# Altium footprint library SUPERSEAL 26POS 90Deg.PcbLib: 1 footprints
Each footprint in its own frame and in the unit in brackets; x right, y up, seen from the top. Pads: shape width x height; smd on the part's side, far side on the other; paste and mask are expansions set on the pad; w line width, h text height; cw(c..) or ccw(c..) is an arc to the next point about the centre after c.
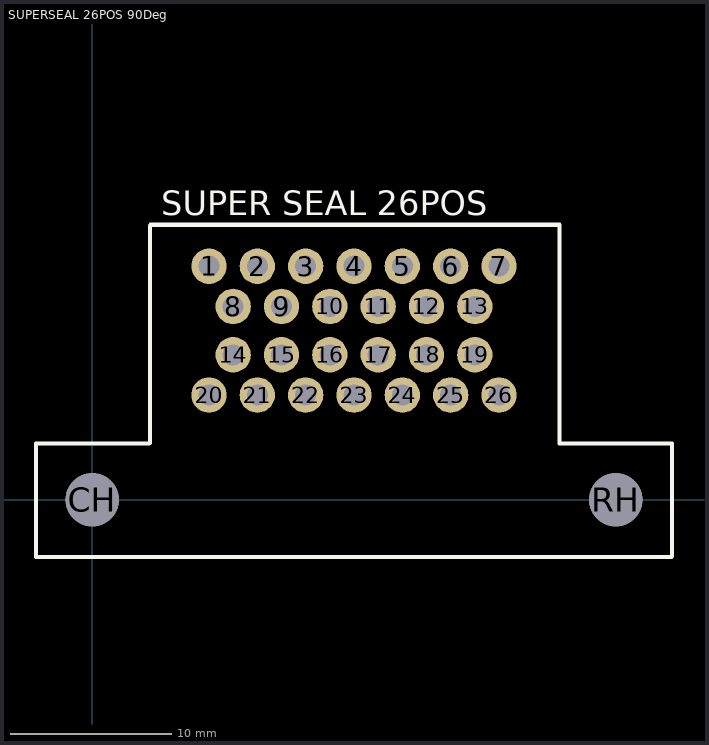
[diagram p0: the footprint, top view; thin cyan lines are the x and y axes]

## SUPERSEAL 26POS 90Deg [mm]
pads (28):
  round 2.2 hole 1.3: 1(7.25,14.5) 2(10.25,14.5) 3(13.25,14.5) 4(16.25,14.5) 5(19.25,14.5) 6(22.25,14.5) 7(25.25,14.5) 8(8.75,12) 9(11.75,12) 10(14.75,12) 11(17.75,12) 12(20.75,12) 13(23.75,12) 14(8.75,9) 15(11.75,9) 16(14.75,9) 17(17.75,9) 18(20.75,9) 19(23.75,9) 20(7.25,6.5) 21(10.25,6.5) 22(13.25,6.5) 23(16.25,6.5) 24(19.25,6.5) 25(22.25,6.5) 26(25.25,6.5)
  round 3.3 hole 3.3 unplated: CH(0,0) RH(32.5,0)
Top Overlay:
  lines w0.254: -3.5,-3.561 35.966,-3.561 ; -3.5,-3.5 -3.5,3.5 ; -3.487,3.5 3.513,3.5 ; 3.6,3.525 3.6,17.025 ; 3.607,17.074 29,17.074 ; 29,17 29,3.5 36,3.5 36,-3.5
  text "SUPER SEAL 26POS" at 4.293,17.653 h1.52
3D body "c-6437288-4-o4-3d.stp": height 27.91, standoff -3.99, extent -3.45,-19.5 36.05,17